# EAGLE library part STR711F (library STR711)
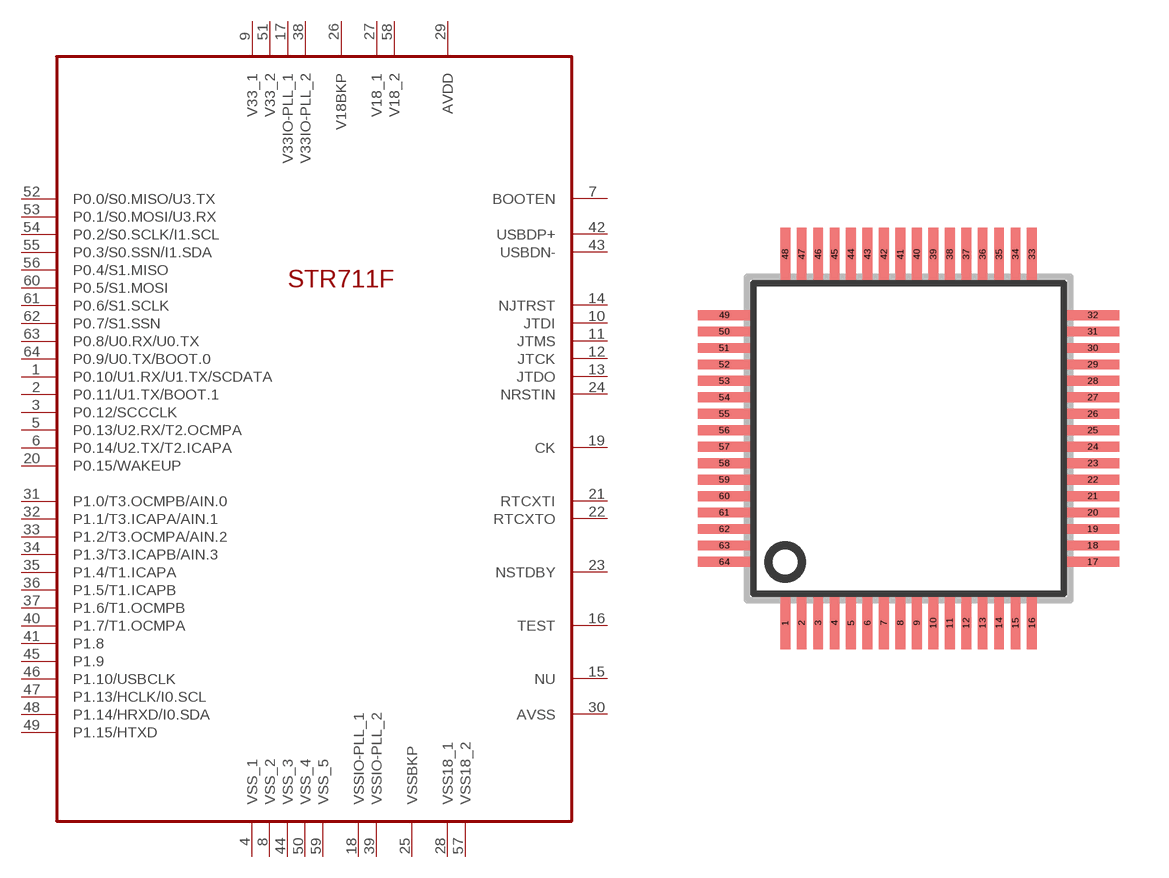
[diagram p0: symbol with the pads of TQFP64; footprint TQFP64]

Designator prefix -

## STR711F  [TQFP64]
1  P0.10/U1.RX/U1.TX/SCDATA
2  P0.11/U1.TX/BOOT.1
3  P0.12/SCCCLK
4  VSS_1
5  P0.13/U2.RX/T2.OCMPA
6  P0.14/U2.TX/T2.ICAPA
7  BOOTEN
8  VSS_2
9  V33_1
10  JTDI
11  JTMS
12  JTCK
13  JTDO
14  NJTRST
15  NU
16  TEST
17  V33IO-PLL_1
18  VSSIO-PLL_1
19  CK
20  P0.15/WAKEUP
21  RTCXTI
22  RTCXTO
23  NSTDBY
24  NRSTIN
25  VSSBKP
26  V18BKP
27  V18_1
28  VSS18_1
29  AVDD
30  AVSS
31  P1.0/T3.OCMPB/AIN.0
32  P1.1/T3.ICAPA/AIN.1
33  P1.2/T3.OCMPA/AIN.2
34  P1.3/T3.ICAPB/AIN.3
35  P1.4/T1.ICAPA
36  P1.5/T1.ICAPB
37  P1.6/T1.OCMPB
38  V33IO-PLL_2
39  VSSIO-PLL_2
40  P1.7/T1.OCMPA
41  P1.8
42  USBDP+
43  USBDN-
44  VSS_3
45  P1.9
46  P1.10/USBCLK
47  P1.13/HCLK/I0.SCL
48  P1.14/HRXD/I0.SDA
49  P1.15/HTXD
50  VSS_4
51  V33_2
52  P0.0/S0.MISO/U3.TX
53  P0.1/S0.MOSI/U3.RX
54  P0.2/S0.SCLK/I1.SCL
55  P0.3/S0.SSN/I1.SDA
56  P0.4/S1.MISO
57  VSS18_2
58  V18_2
59  VSS_5
60  P0.5/S1.MOSI
61  P0.6/S1.SCLK
62  P0.7/S1.SSN
63  P0.8/U0.RX/U0.TX
64  P0.9/U0.TX/BOOT.0

## Footprint TQFP64 (pad centres in mm)
64-PIN PLASTIC TQFP (10x10) shrink quad flat pack, square Source: SQFP-S-10X10-64 ipc-smd.lbr
smd 0.3 x 1.6: 1 -3.75,-5.6; 2 -3.25,-5.6; 3 -2.75,-5.6; 4 -2.25,-5.6; 5 -1.75,-5.6; 6 -1.25,-5.6; 7 -0.75,-5.6; 8 -0.25,-5.6; 9 0.25,-5.6; 10 0.75,-5.6; 11 1.25,-5.6; 12 1.75,-5.6; 13 2.25,-5.6; 14 2.75,-5.6; 15 3.25,-5.6; 16 3.75,-5.6; 33 3.75,5.6; 34 3.25,5.6; 35 2.75,5.6; 36 2.25,5.6; 37 1.75,5.6; 38 1.25,5.6; 39 0.75,5.6; 40 0.25,5.6; 41 -0.25,5.6; 42 -0.75,5.6; 43 -1.25,5.6; 44 -1.75,5.6; 45 -2.25,5.6; 46 -2.75,5.6; 47 -3.25,5.6; 48 -3.75,5.6
smd 1.6 x 0.3: 17 5.6,-3.75; 18 5.6,-3.25; 19 5.6,-2.75; 20 5.6,-2.25; 21 5.6,-1.75; 22 5.6,-1.25; 23 5.6,-0.75; 24 5.6,-0.25; 25 5.6,0.25; 26 5.6,0.75; 27 5.6,1.25; 28 5.6,1.75; 29 5.6,2.25; 30 5.6,2.75; 31 5.6,3.25; 32 5.6,3.75; 49 -5.6,3.75; 50 -5.6,3.25; 51 -5.6,2.75; 52 -5.6,2.25; 53 -5.6,1.75; 54 -5.6,1.25; 55 -5.6,0.75; 56 -5.6,0.25; 57 -5.6,-0.25; 58 -5.6,-0.75; 59 -5.6,-1.25; 60 -5.6,-1.75; 61 -5.6,-2.25; 62 -5.6,-2.75; 63 -5.6,-3.25; 64 -5.6,-3.75